# EAGLE library part MODULO_ENC28J60 (library enc28j60)
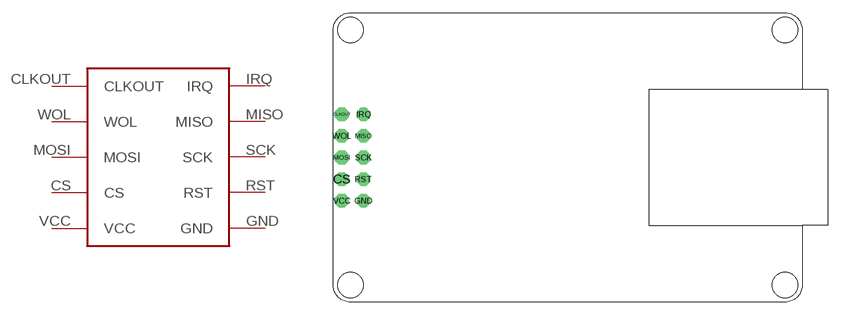
[diagram p0: symbol with the pads of MODULO_ENC28J60; footprint MODULO_ENC28J60]

Designator prefix U

## MODULO_ENC28J60  [MODULO_ENC28J60]
CLKOUT  CLKOUT
CS  CS
GND  GND
IRQ  IRQ
MISO  MISO
MOSI  MOSI
RST  RST
SCK  SCK
VCC  VCC
WOL  WOL

## Footprint MODULO_ENC28J60 (pad centres in mm)
drill 1 pad 1.6 octagon: CLKOUT 0,5.08; CS 0,-2.54; GND 2.54,-5.08; IRQ 2.54,5.08; MISO 2.54,2.54; MOSI 0,0; RST 2.54,-2.54; SCK 2.54,0; VCC 0,-5.08; WOL 0,2.54
hole 3 at 1,15
hole 3 at 52,15
hole 3 at 1,-15
hole 3 at 52,-15